# EAGLE library part 912283001 (library con-molex-sim)
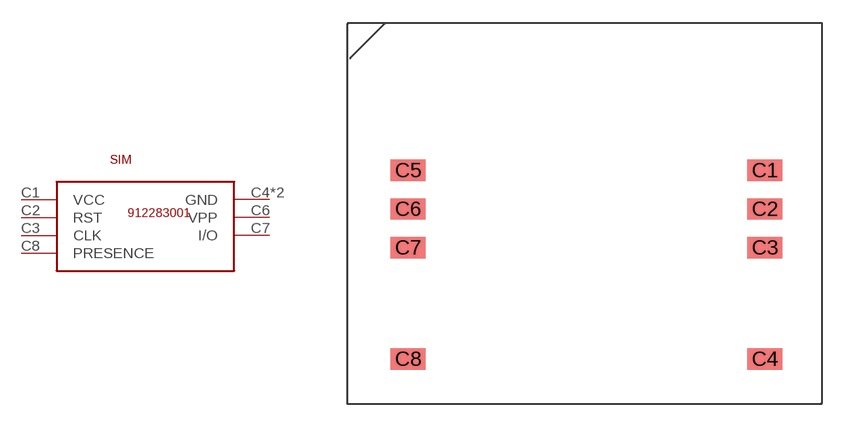
[diagram p0: symbol with the pads of 91228-3001; footprint 91228-3001]

Designator prefix SIM

## 912283001  [91228-3001]
C1  VCC
C2  RST
C3  CLK
C4  GND
C5  GND
C6  VPP
C7  I/O
C8  PRESENCE

## Footprint 91228-3001 (pad centres in mm)
smd 2.3 x 1.4: C1 22.175,0; C2 22.175,-2.54; C3 22.175,-5.08; C4 22.175,-12.4; C5 -1.27,0; C6 -1.27,-2.54; C7 -1.27,-5.08; C8 -1.27,-12.4